# Altium footprint library L-SPE-XAL60xx.PcbLib: 1 footprints
Each footprint in its own frame and in the unit in brackets; x right, y up, seen from the top. Pads: shape width x height; smd on the part's side, far side on the other; paste and mask are expansions set on the pad; w line width, h text height; cw(c..) or ccw(c..) is an arc to the next point about the centre after c.
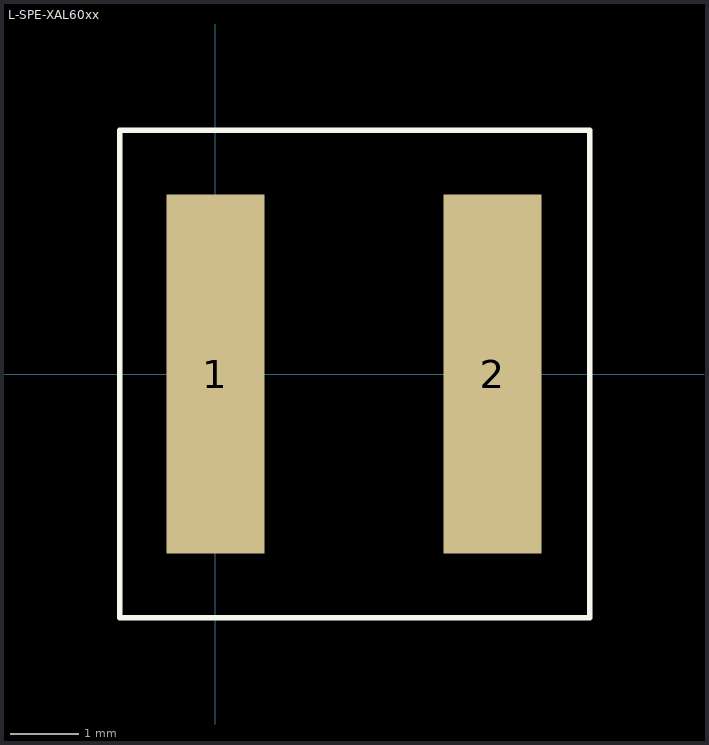
[diagram p0: the footprint, top view; thin cyan lines are the x and y axes]

## L-SPE-XAL60xx [mm]
pads (2):
  rect 1.43x5.24 smd: 1(0,0) 2(4.04,0)
Top Overlay:
  lines w0.08: -1.397,-3.556 5.461,-3.556 5.461,3.556 -1.397,3.556 -1.397,-3.556
3D body: height 6, standoff -0.1, extent -1.248,-3.38 5.312,3.38